# EAGLE library part ROTARY-ENCODER/BINARY (library audioint)
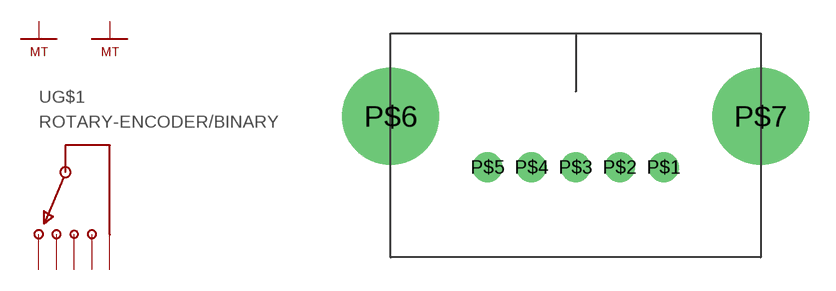
[diagram p10: symbol with the pads of ROTARY-ENCODER/BINARY; footprint ROTARY-ENCODER/BINARY]

Designator prefix -; gates G$1=ROTARY-ENCODER/BINARY G$2=MECHANICAL G$3=MECHANICAL

## ROTARY-ENCODER/BINARYALPHA  [ROTARY-ENCODER/BINARY]
P$1  G$1:P$1
P$2  G$1:P$2
P$3  G$1:P$3
P$4  G$1:P$4
P$5  G$1:P$5
P$6  G$2:MT  pas
P$7  G$3:MT  pas

## Footprint ROTARY-ENCODER/BINARY (pad centres in mm)
drill 1.092 pad 1.7 round: P$1 5,0; P$2 2.5,0; P$3 0,0; P$4 -2.5,0; P$5 -5,0
drill 4.115 pad 5.5 round: P$6 -10.5,2.9; P$7 10.5,2.9